# EAGLE library part 61200621721 (library Wire_to_Board_Connectors_rev15d)
WR-BHD 2.54mm Male Angled Box Header, 6 Pins=>Code : Con_WTB_BHD_2.54_Male_THT_WS_61200621721 <http://katalog.we-online.de/media/thumbs2/eican/thb_Con_WTB_BHD_2.54_Male_THT_WS_6120xx21721_pf2.jpg> Details see: http://katalog.we-online.de/en/em/612_0xx_217_21 Created 2014-06-05, Karrer Zheng 2014 (C) Würth Elektronik
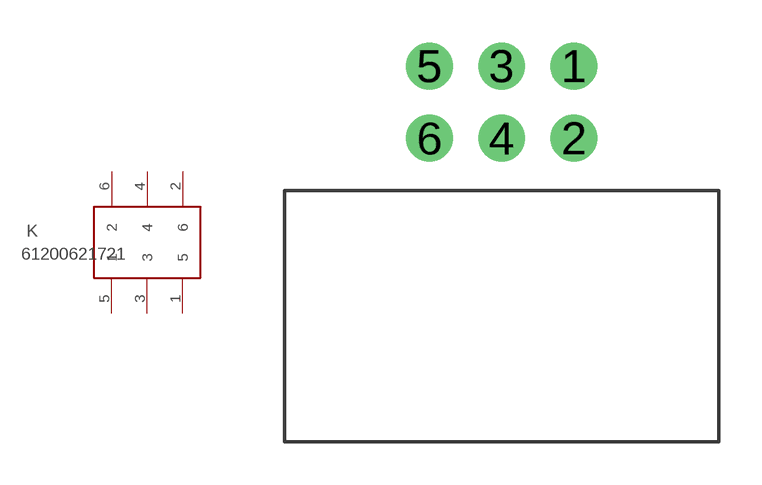
[diagram p111: symbol with the pads of 61200621721; footprint 61200621721]

Designator prefix K

## 61200621721  [61200621721]
1  5  pas
2  6  pas
3  3  pas
4  4  pas
5  1  pas
6  2  pas

## Footprint 61200621721 (pad centres in mm)
WR-BHD 2.54mm Male Angled Box Header, 6 Pins
drill 1.1: 1 2.54,1.27; 2 2.54,-1.27; 3 0,1.27; 4 0,-1.27; 5 -2.54,1.27; 6 -2.54,-1.27